# Altium footprint library SOP64P600X175-24N.PcbLib: 1 footprints
Each footprint in its own frame and in the unit in brackets; x right, y up, seen from the top. Pads: shape width x height; smd on the part's side, far side on the other; paste and mask are expansions set on the pad; w line width, h text height; cw(c..) or ccw(c..) is an arc to the next point about the centre after c.
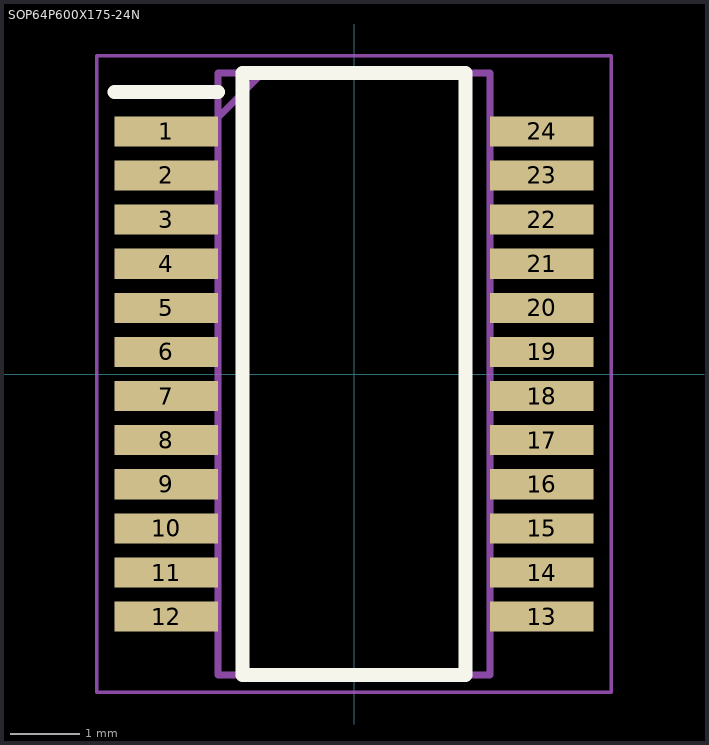
[diagram p0: the footprint, top view; thin cyan lines are the x and y axes]

## SOP64P600X175-24N [mm]
pads (24):
  rect 1.495x0.435 smd: 1(-2.702,3.492) 2(-2.702,2.858) 3(-2.702,2.222) 4(-2.702,1.588) 5(-2.702,0.952) 6(-2.702,0.318) 7(-2.702,-0.318) 8(-2.702,-0.952) 9(-2.702,-1.588) 10(-2.702,-2.222) 11(-2.702,-2.858) 12(-2.702,-3.492) 13(2.702,-3.492) 14(2.702,-2.858) 15(2.702,-2.222) 16(2.702,-1.588) 17(2.702,-0.952) 18(2.702,-0.318) 19(2.702,0.318) 20(2.702,0.952) 21(2.702,1.588) 22(2.702,2.222) 23(2.702,2.858) 24(2.702,3.492)
Top Overlay:
  lines w0.2: -3.45,4.06 -1.955,4.06 ; -1.605,-4.33 1.605,-4.33 1.605,4.33 -1.605,4.33 -1.605,-4.33
Mechanical 15:
  lines w0.1: -1.955,3.695 -1.32,4.33 ; -1.955,-4.33 1.955,-4.33 1.955,4.33 -1.955,4.33 -1.955,-4.33
Mechanical 20:
  lines w0.05: -3.7,-4.58 3.7,-4.58 3.7,4.58 -3.7,4.58 -3.7,-4.58